# Altium footprint library Main_Board.PcbLib: 78 footprints (part 2 of 5)
Each footprint in its own frame and in the unit in brackets; x right, y up, seen from the top. Pads: shape width x height; smd on the part's side, far side on the other; paste and mask are expansions set on the pad; w line width, h text height; cw(c..) or ccw(c..) is an arc to the next point about the centre after c.
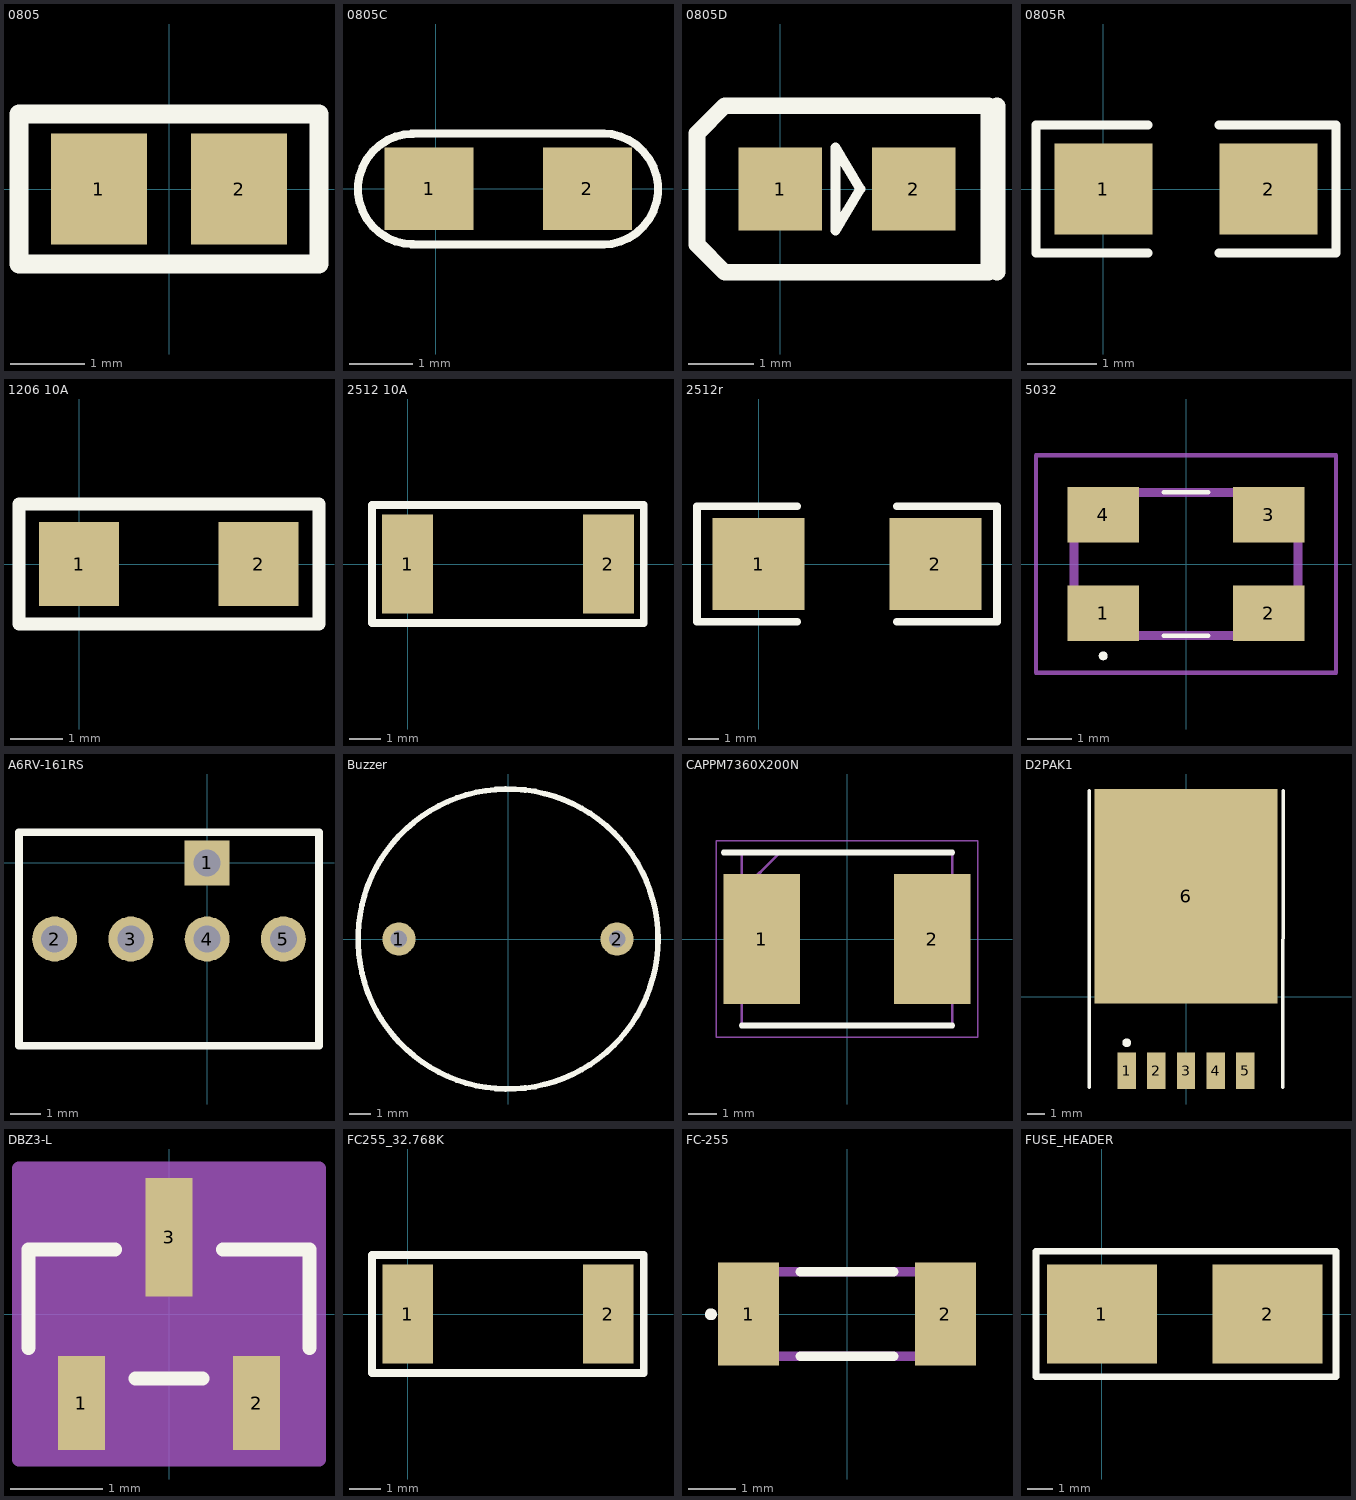
[diagram p1: the footprints below, top view; thin cyan lines are the x and y axes]

## 0805 [mm]
pads (2):
  rect 1.3x1.5 smd: 1(-0.95,0) 2(0.95,0)
Top Overlay:
  lines w0.254: -2.032,-1.016 -2.032,1.016 2.032,1.016 2.032,-1.016 -2.032,-1.016

## 0805C [mm]
pads (2):
  rect 1.4x1.3 smd: 1(-0.102,0) 2(2.388,0)
Top Overlay:
  lines w0.127: -0.377,-0.876 2.647,-0.876 ; -0.377,0.871 2.647,0.871 ; -0.351,-0.87 cw(c-0.351,-0.003) -0.351,0.865 ; 2.622,-0.876 ccw(c2.622,-0.003) 2.622,0.871

## 0805D [mil] "二?"
pads (2):
  rect 50x50 smd: 1(0,0) 2(80,0)
Top Overlay:
  lines w5.91: 33,-25 48,0 33,25 33,-25
  lines w10: 130,-50 130,0 130,50 ; -50,-33.33 -33.33,-50 125,-50 125,50 -33.33,50 -50,33.33 -50,-33.33

## 0805R [mm]
height 0.051
pads (2):
  rect 1.4x1.3 smd: 1(0,0) 2(2.362,0)
Top Overlay:
  lines w0.127: 0.635,-0.914 -0.965,-0.914 -0.965,0.914 0.635,0.914 ; 1.651,-0.914 3.327,-0.914 3.327,0.914 1.651,0.914

## 1206 10A [mm]
pads (2):
  rect 1.52x1.6 smd: 1(0,0) 2(3.42,0)
Top Overlay:
  lines w0.254: -1.143,-1.143 4.572,-1.143 4.572,1.143 -1.143,1.143 -1.143,-1.143

## 2512 10A [mm]
pads (2):
  rect 1.65x3.2 smd: 1(0,0) 2(6.48,0)
Top Overlay:
  lines w0.254: -1.143,-1.905 -1.143,1.905 7.62,1.905 7.62,-1.905 -1.143,-1.905

## 2512r [mil] "Chip Resistor; Body 6.3 x 3.2 mm (L"
height 23.62
pads (2):
  rect 120x120 smd: 1(0,0) 2(230,0)
Top Overlay:
  lines w10: 50,-75 -80,-75 -80,75 50,75 ; 180,-75 310,-75 310,75 180,75

## 5032 [mm] "8M晶振"
pads (4):
  rect 1.6x1.25 smd: 1(-1.85,-1.1) 2(1.85,-1.1) 3(1.85,1.1) 4(-1.85,1.1)
Top Overlay:
  lines w0.1: -0.5,-1.6 0.5,-1.6 ; -0.5,1.6 0.5,1.6 ; -1.85,-2.1 cw(c-1.85,-2.05) -1.85,-2 cw(c-1.85,-2.05) -1.85,-2.1
Mechanical 13:
  lines w0.2: -2.5,-1.6 2.5,-1.6 2.5,1.6 -2.5,1.6 -2.5,-1.6
Mechanical 15:
  lines w0.1: -3.35,-2.425 3.35,-2.425 3.35,2.425 -3.35,2.425 -3.35,-2.425

## A6RV-161RS [mm] "旋转开?"
height 10
pads (5):
  rect 1.5x1.5 hole 0.9: 1(0,0)
  round 1.5 hole 0.9: 2(-5.08,-2.54) 3(-2.54,-2.54) 4(0,-2.54) 5(2.54,-2.54)
Top Overlay:
  lines w0.254: -6.27,-6.096 -6.27,1.016 ; 3.73,-6.096 3.73,1.016 ; 3.73,-6.096 -6.223,-6.096 3.73,-6.096 ; 3.73,1.016 -6.223,1.016 3.73,1.016

## Buzzer [mil]
height 250
pads (2):
  round 60 hole 30: 1(-196.85,0) 2(196.85,0)
Top Overlay:
  circle w10: c0,0 r270.65

## CAPPM7360X200N [mm] "470uF贴片"
pads (2):
  rect 2.65x4.5 smd: 1(-2.95,0) 2(2.95,0)
Top Overlay:
  lines w0.2: -4.275,3 3.65,3 ; -3.65,-3 3.65,-3
Mechanical 13:
  lines w0.1: -3.65,1.675 -2.325,3 ; -3.65,-3 -3.65,3 3.65,3 3.65,-3 -3.65,-3
Mechanical 15:
  lines w0.05: -4.525,-3.4 -4.525,3.4 4.525,3.4 4.525,-3.4 -4.525,-3.4
3D body "T523H477M016APE0707280.stp": height 2, standoff 0, extent -3.65,-3 3.65,3

## D2PAK1 [mm]
height 5.08
pads (6):
  rect 1.05x2.1 smd: 1(-3.4,-4.225) 2(-1.7,-4.225) 3(0,-4.225) 4(1.7,-4.225) 5(3.4,-4.225)
  rect 10.5x12.3 smd: 6(0,5.766)
Top Overlay:
  circle w0.25: c-3.4,-2.625 r0.125
  lines w0.2: -5.55,-5.175 -5.55,11.825 ; 5.55,-5.175 5.563,11.825

## DBZ3-L [mil]
pads (3):
  rect 20x40 smd: 1(-37.4,-38) 2(37.4,-38)
  rect 20x50.5 smd: 3(0,32.75)
Top Overlay:
  lines w6: -60,-14.41 -60,27.5 -23.1,27.5 ; -14.3,-27.5 14.3,-27.5 ; 23.1,27.5 60,27.5 60,-14.41
Mechanical 13:
  lines w1: -60,-27.5 -60,27.5 60,27.5 60,-27.5 -60,-27.5 ; -47.4,-52 -27.4,-52 -27.4,-27.5 -47.4,-27.5 -47.4,-52 ; -10,27.5 -10,52 10,52 10,27.5 -10,27.5 ; 27.4,-52 47.4,-52 47.4,-27.5 27.4,-27.5 27.4,-52
Mechanical 15:
  region: 64,-62 -64,-62 -64,62 64,62
  lines w6: -64,-62 64,-62 64,62 -64,62 -64,-62
3D body: height 10, standoff 0, extent 0,0 10,10

## FC255_32.768K [mm]
pads (2):
  rect 1.63x3.2 smd: 1(0,0) 2(6.48,0)
Top Overlay:
  lines w0.254: -1.143,-1.905 -1.143,1.905 7.62,1.905 7.62,-1.905 -1.143,-1.905

## FC-255 [mm] "32.768KHz晶振、"
pads (2):
  rect 1.3x2.2 smd: 1(-2.1,0) 2(2.1,0)
Top Overlay:
  circle w0.2: c-2.902,-0.006 r0.027
  lines w0.2: -1,-0.9 1,-0.9 ; -1,0.9 1,0.9
Mechanical 13:
  lines w0.2: -2.45,-0.9 2.45,-0.9 2.45,0.9 -2.45,0.9 -2.45,-0.9

## FUSE_HEADER [mm]
pads (2):
  rect 4.24x3.81 smd: 1(0,0) 2(6.38,0)
Top Overlay:
  lines w0.254: -2.54,-2.413 -2.54,2.413 9.017,2.413 9.017,-2.413 -2.54,-2.413